# EAGLE library part IC-TTL-SINGLE-74-139 (library mylib)
single 74 logic IC: 139
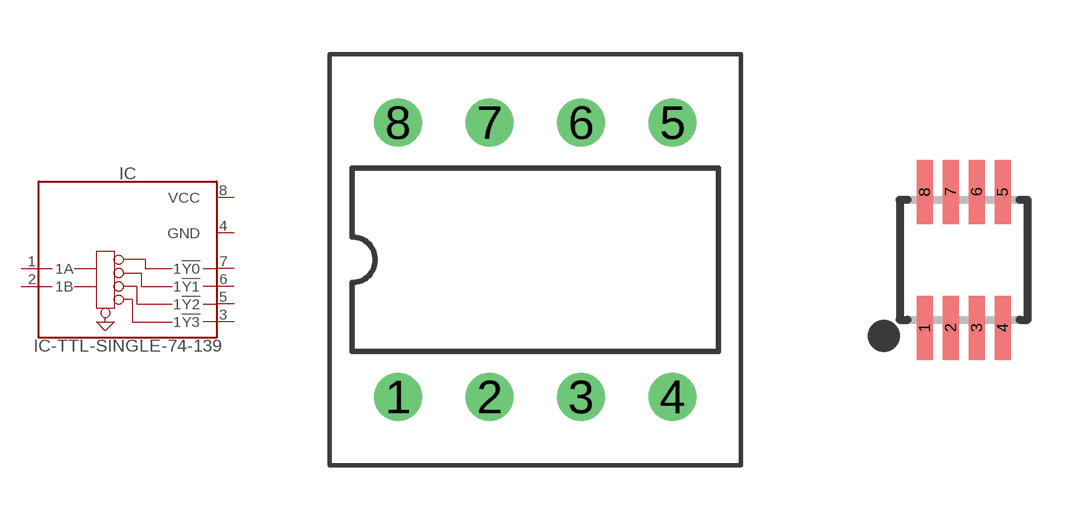
[diagram p87: symbol with the pads of BOARD-HENKAN-DIP08; footprints BOARD-HENKAN-DIP08, SOT65P315X290-8N]

Designator prefix IC

## IC-TTL-SINGLE-74-139-HENKAN  [BOARD-HENKAN-DIP08]
1  1A  in
2  1B  in
3  1!Y3!  out
4  GND  pwr
5  1!Y2!  out
6  1!Y1!  out
7  1!Y0!  out
8  VCC  pwr

## IC-TTL-SINGLE-74-139-FLAT (DIGIKEY: 296-18235-1-ND; SMD-PAD: 8)  [SOT65P315X290-8N]
Pads as for BOARD-HENKAN-DIP08

## Footprint BOARD-HENKAN-DIP08 (pad centres in mm)
drill 0.813: 1 -3.81,-3.81; 2 -1.27,-3.81; 3 1.27,-3.81; 4 3.81,-3.81; 5 3.81,3.81; 6 1.27,3.81; 7 -1.27,3.81; 8 -3.81,3.81

## Footprint SOT65P315X290-8N (pad centres in mm)
smd 0.4 x 1.6: 1 -0.975,-1.7; 2 -0.325,-1.7; 3 0.325,-1.7; 4 0.975,-1.7; 5 0.975,1.7; 6 0.325,1.7; 7 -0.325,1.7; 8 -0.975,1.7